# EAGLE library part DS1804Z-010+ (library 2021-09-26_09-38-28_Library)
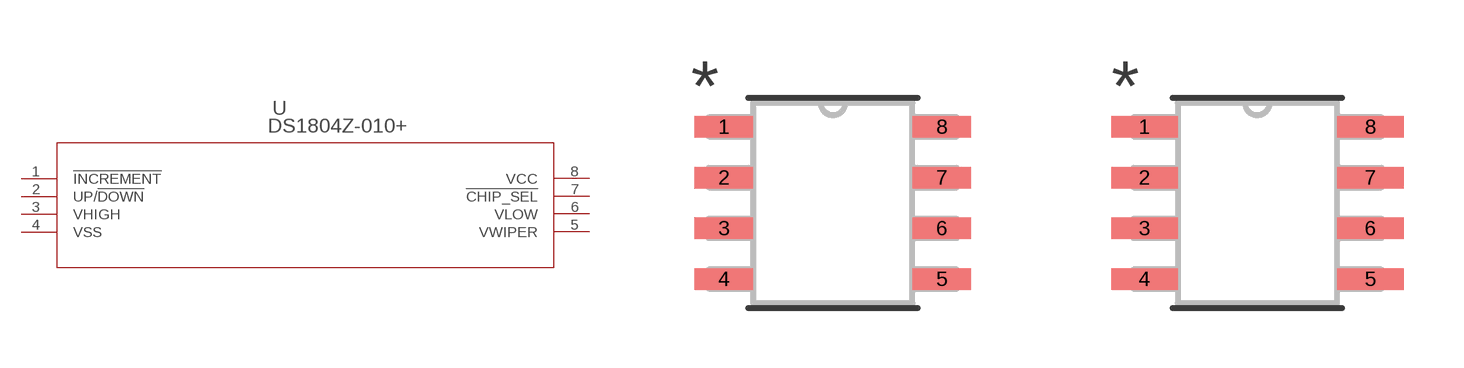
[diagram p0: symbol with the pads of 21-0041B_8_MXM; footprints 21-0041B_8_MXM, 21-0041B_8_MXM-M]

Designator prefix U

## DS1804Z-010+21-0041B_8_MXM (Copyright: Copyright (C) 2021 Ultra Librarian. All rights reserved.; Manufacturer_Part_Number: DS1804Z-010+; Mfr_Name: Maxim Integrated Products)  [21-0041B_8_MXM]
1  !INCREMENT  pas
2  UP/!DOWN  pas
3  VHIGH  pas
4  VSS  pas
5  VWIPER  pas
6  VLOW  pas
7  !CHIP_SEL  pas
8  VCC  pas

## DS1804Z-010+21-0041B_8_MXM-M (Copyright: Copyright (C) 2021 Ultra Librarian. All rights reserved.; Manufacturer_Part_Number: DS1804Z-010+; Mfr_Name: Maxim Integrated Products)  [21-0041B_8_MXM-M]
Pads as for 21-0041B_8_MXM

## DS1804Z-010+21-0041B_8_MXM-L (Copyright: Copyright (C) 2021 Ultra Librarian. All rights reserved.; Manufacturer_Part_Number: DS1804Z-010+; Mfr_Name: Maxim Integrated Products)  [21-0041B_8_MXM-L]
Pads as for 21-0041B_8_MXM

## Footprint 21-0041B_8_MXM (pad centres in mm)
smd 1.46 x 0.533: 1 -2.724,1.905; 2 -2.724,0.635; 3 -2.724,-0.635; 4 -2.724,-1.905; 5 2.724,-1.905; 6 2.724,-0.635; 7 2.724,0.635; 8 2.724,1.905

## Footprint 21-0041B_8_MXM-M (pad centres in mm)
smd 1.664 x 0.533: 1 -2.826,1.905; 2 -2.826,0.635; 3 -2.826,-0.635; 4 -2.826,-1.905; 5 2.826,-1.905; 6 2.826,-0.635; 7 2.826,0.635; 8 2.826,1.905

## Footprint 21-0041B_8_MXM-L (pad centres in mm)
smd 1.257 x 0.483: 1 -2.623,1.905; 2 -2.623,0.635; 3 -2.623,-0.635; 4 -2.623,-1.905; 5 2.623,-1.905; 6 2.623,-0.635; 7 2.623,0.635; 8 2.623,1.905